# EAGLE library part PRT-14322 (library PRT-14322)
SparkFun Accessories Photon Stackable Header- 12 Pin Source: Datasheet <https://cdn.sparkfun.com/datasheets/Prototyping/SP-140520-XX-001.pdf>
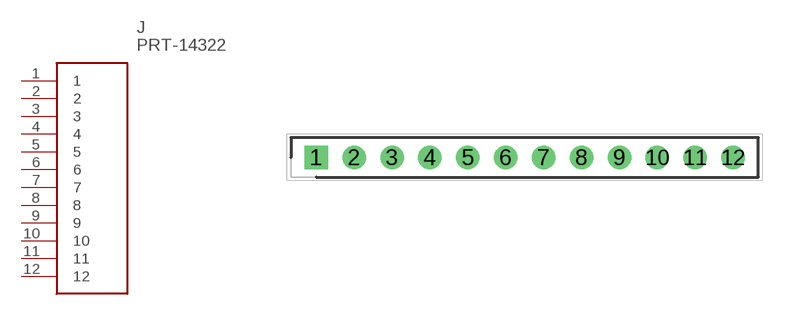
[diagram p0: symbol with the pads of SHDR12W87P0X254_1X12_3103X250X; footprint SHDR12W87P0X254_1X12_3103X250X]

Designator prefix J

## PRT-14322 (Description: SparkFun Accessories Photon Stackable Header- 12 Pin; Height: 8.65mm; Manufacturer_Name: SparkFun; Manufacturer_Part_Number: PRT-14322; Mouser_Part_Number: 474-PRT-14322; Mouser_Price-Stock: https://www.mouser.com/Search/Refine.aspx?Keyword=474-PRT-14322)  [SHDR12W87P0X254_1X12_3103X250X]
1  1
2  2
3  3
4  4
5  5
6  6
7  7
8  8
9  9
10  10
11  11
12  12

## Footprint SHDR12W87P0X254_1X12_3103X250X (pad centres in mm)
PRT-14322
drill 1.05 pad 1.575 square: 1 0,0
drill 1.05 pad 1.575: 2 2.54,0; 3 5.08,0; 4 7.62,0; 5 10.16,0; 6 12.7,0; 7 15.24,0; 8 17.78,0; 9 20.32,0; 10 22.86,0; 11 25.4,0; 12 27.94,0